# Altium schematic symbol library SCH - CONNECTORS - SAMTEC -TSW-101-07-G-S.SchLib: 1 symbol
Pins are listed as number, name and electrical type; pins without a type are passive.

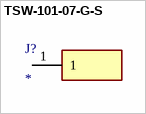
[diagram p0: symbol TSW-101-07-G-S]

## TSW-101-07-G-S
designator J?
Connector; Manufacturer_Name: SAMTEC; Manufacturer_Part_Number: TSW-101-07-G-S; Description: 1 Position; Datasheet Link: http://suddendocs.samtec.com/prints/tsw-xxx-xx-xxx-x-xx-xxx-mkt.pdf; Mouser Part Number: 200-TSW10107GS; Mouser Price/Stock: https://www.mouser.co.uk/ProductDetail/Samtec/TSW-101-07-G-S?qs=hzq9O0YpnZscfPe5oPvABA%3D%3D; Arrow Part Number: TSW-101-07-G-S; Arrow Price/Stock: https://www.arrow.com/en/products/tsw-101-07-g-s/samtec?region=europe
footprint TSW-101-XX-YY-S
pins: 1